# EAGLE library part ESP-12 (library draradech)
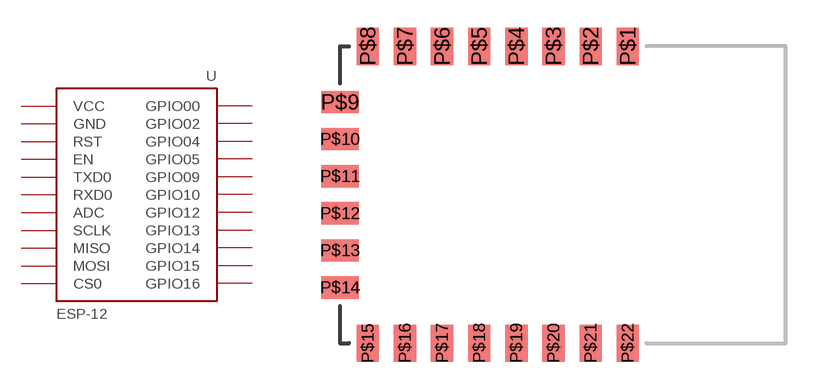
[diagram p0: symbol with the pads of ESP-12; footprint ESP-12]

Designator prefix U

## ESP-12  [ESP-12]
P$1  RST
P$2  ADC
P$3  EN
P$4  GPIO16
P$5  GPIO14
P$6  GPIO12
P$7  GPIO13
P$8  VCC
P$9  CS0
P$10  MISO
P$11  GPIO09
P$12  GPIO10
P$13  MOSI
P$14  SCLK
P$15  GND
P$16  GPIO15
P$17  GPIO02
P$18  GPIO00
P$19  GPIO04
P$20  GPIO05
P$21  RXD0
P$22  TXD0

## Footprint ESP-12 (pad centres in mm)
smd 1.2 x 2: P$1 3.5,8; P$2 1.5,8; P$3 -0.5,8; P$4 -2.5,8; P$5 -4.5,8; P$6 -6.5,8; P$7 -8.5,8; P$8 -10.5,8; P$15 -10.5,-8; P$16 -8.5,-8; P$17 -6.5,-8; P$18 -4.5,-8; P$19 -2.5,-8; P$20 -0.5,-8; P$21 1.5,-8; P$22 3.5,-8
smd 2 x 1.2: P$9 -12,5; P$10 -12,3; P$11 -12,1; P$12 -12,-1; P$13 -12,-3; P$14 -12,-5